# Altium schematic symbol library Electroplant.SchLib: 11 symbols
Pins are listed as number, name and electrical type; pins without a type are passive.

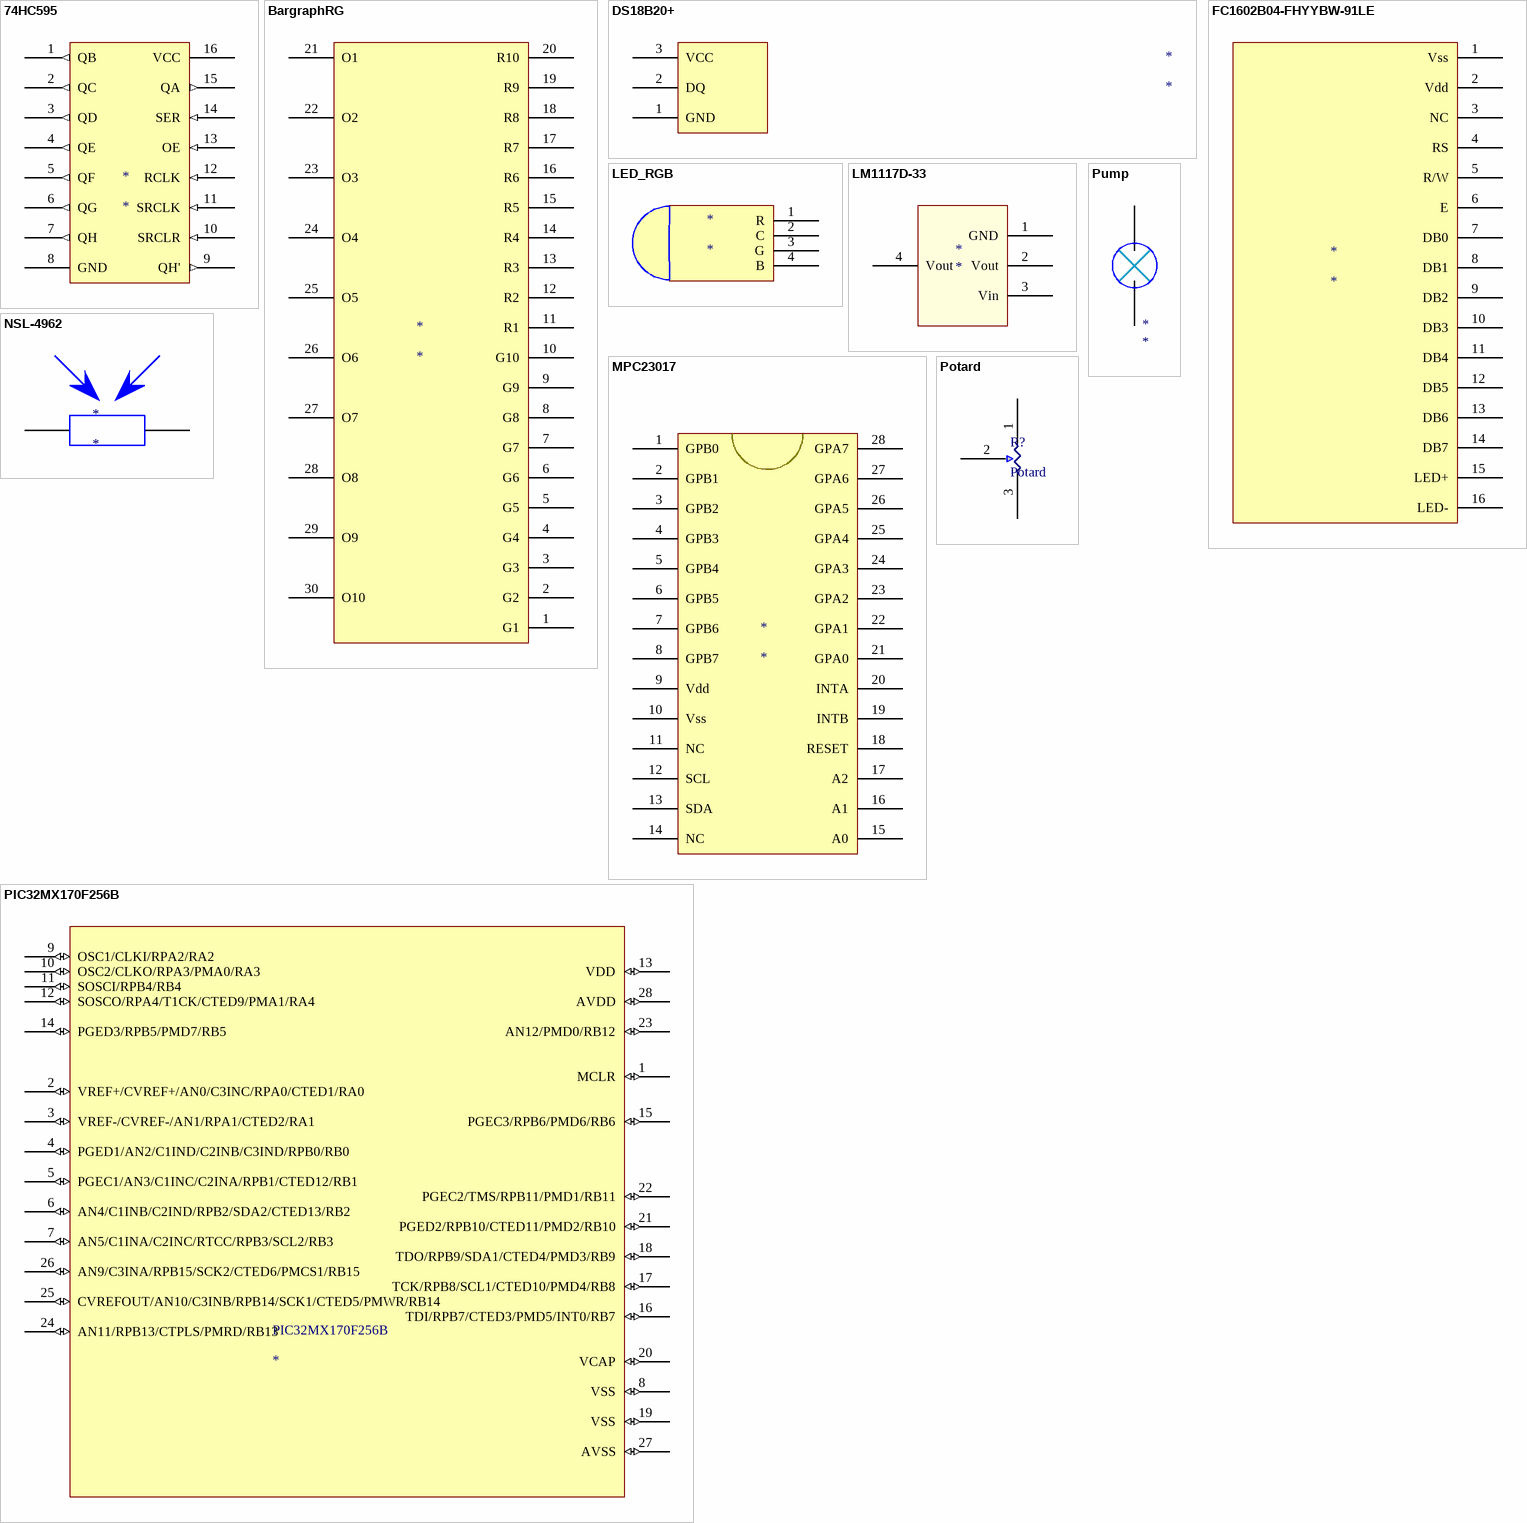
[diagram p0: symbols 74HC595 to Pump]

## 74HC595
designator *
pins: 1 QB (out), 2 QC (out), 3 QD (out), 4 QE (out), 5 QF (out), 6 QG (out), 7 QH (out), 8 GND (power), 9 QH' (out), 10 SRCLR (in), 11 SRCLK (in), 12 RCLK (in), 13 OE (in), 14 SER (in), 15 QA (out), 16 VCC (power)

## BargraphRG
designator *
pins: 1 G1 (power), 2 G2 (power), 3 G3 (power), 4 G4 (power), 5 G5 (power), 6 G6 (power), 7 G7 (power), 8 G8 (power), 9 G9 (power), 10 G10 (power), 11 R1 (power), 12 R2 (power), 13 R3 (power), 14 R4 (power), 15 R5 (power), 16 R6 (power), 17 R7 (power), 18 R8 (power), 19 R9 (power), 20 R10 (power), 21 O1 (power), 22 O2 (power), 23 O3 (power), 24 O4 (power), 25 O5 (power), 26 O6 (power), 27 O7 (power), 28 O8 (power), 29 O9 (power), 30 O10 (power)

## DS18B20+
designator *
pins: 1 GND, 2 DQ, 3 VCC

## FC1602B04-FHYYBW-91LE
designator *
pins: 1 Vss, 2 Vdd, 3 NC, 4 RS, 5 R/W, 6 E, 7 DB0, 8 DB1, 9 DB2, 10 DB3, 11 DB4, 12 DB5, 13 DB6, 14 DB7, 15 LED+, 16 LED-

## LED_RGB
designator *
pins: 1 R, 2 C, 3 G, 4 B

## LM1117D-33
designator *
pins: 1 GND, 2 Vout, 3 Vin, 4 Vout

## MPC23017
designator *
pins: 1 GPB0, 2 GPB1, 3 GPB2, 4 GPB3, 5 GPB4, 6 GPB5, 7 GPB6, 8 GPB7, 9 Vdd, 10 Vss, 11 NC, 12 SCL, 13 SDA, 14 NC, 15 A0, 16 A1, 17 A2, 18 RESET, 19 INTB, 20 INTA, 21 GPA0, 22 GPA1, 23 GPA2, 24 GPA3, 25 GPA4, 26 GPA5, 27 GPA6, 28 GPA7

## NSL-4962
designator *
pins: 1, 2

## PIC32MX170F256B
designator PIC32MX170F256B
pins: 1 MCLR (io), 2 VREF+/CVREF+/AN0/C3INC/RPA0/CTED1/RA0 (io), 3 VREF-/CVREF-/AN1/RPA1/CTED2/RA1 (io), 4 PGED1/AN2/C1IND/C2INB/C3IND/RPB0/RB0 (io), 5 PGEC1/AN3/C1INC/C2INA/RPB1/CTED12/RB1 (io), 6 AN4/C1INB/C2IND/RPB2/SDA2/CTED13/RB2 (io), 7 AN5/C1INA/C2INC/RTCC/RPB3/SCL2/RB3 (io), 8 VSS (io), 9 OSC1/CLKI/RPA2/RA2 (io), 10 OSC2/CLKO/RPA3/PMA0/RA3 (io), 11 SOSCI/RPB4/RB4 (io), 12 SOSCO/RPA4/T1CK/CTED9/PMA1/RA4 (io), 13 VDD (io), 14 PGED3/RPB5/PMD7/RB5 (io), 15 PGEC3/RPB6/PMD6/RB6 (io), 16 TDI/RPB7/CTED3/PMD5/INT0/RB7 (io), 17 TCK/RPB8/SCL1/CTED10/PMD4/RB8 (io), 18 TDO/RPB9/SDA1/CTED4/PMD3/RB9 (io), 19 VSS (io), 20 VCAP (io), 21 PGED2/RPB10/CTED11/PMD2/RB10 (io), 22 PGEC2/TMS/RPB11/PMD1/RB11 (io), 23 AN12/PMD0/RB12 (io), 24 AN11/RPB13/CTPLS/PMRD/RB13 (io), 25 CVREFOUT/AN10/C3INB/RPB14/SCK1/CTED5/PMWR/RB14 (io), 26 AN9/C3INA/RPB15/SCK2/CTED6/PMCS1/RB15 (io), 27 AVSS (io), 28 AVDD (io)

## Potard
designator R?
pins: 1, 2, 3

## Pump
designator *
pins: 1, 2